# Altium schematic symbol library LongNames.SchLib: 2 symbols (part 1 of 3)
Pins are listed as number, name and electrical type; pins without a type are passive.

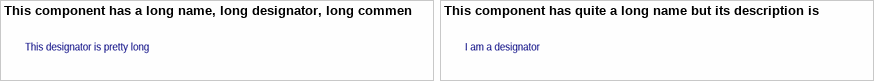
[diagram p0: symbols This component has a long name, long designator, long comment, and long description. Let's see how long we can make this design ID to This component has quite a long name but its description is empty; this should be interesting]
## This component has a long name, long designator, long comment, and long description. Let's see how long we can make this design ID
designator This designator is pretty long, comment There are 65535 bytes of lipsum in the description  (value not drawn)